# EAGLE library part PINHEAD-10PINS (library BaseApp)
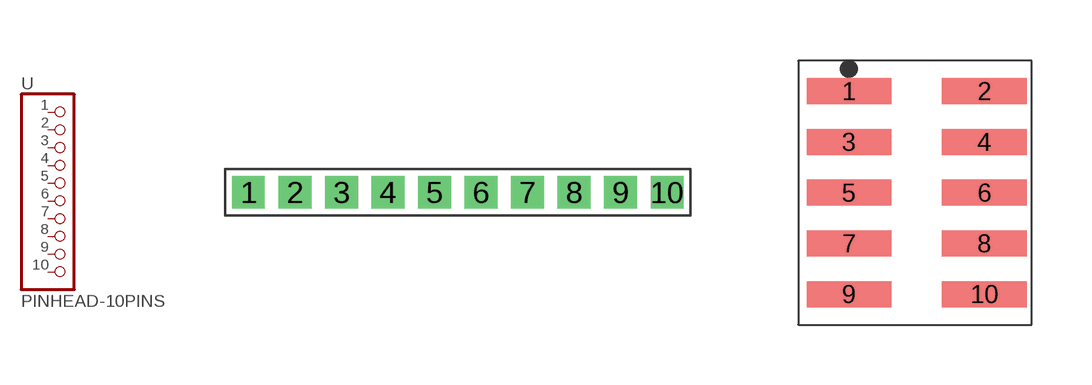
[diagram p73: symbol with the pads of PINHEAD-1X10-SQUARE; footprints PINHEAD-1X10-SQUARE, 1.27MM_HEADER-SMT]

Designator prefix -

## PINHEAD-10PINS  [PINHEAD-1X10-SQUARE]
1  1  pas
2  2  pas
3  3  pas
4  4  pas
5  5  pas
6  6  pas
7  7  pas
8  8  pas
9  9  pas
10  10  pas

## PINHEAD-10PINS-1.27MM_2X5  [1.27MM_HEADER-SMT]
Pads as for PINHEAD-1X10-SQUARE

## PINHEAD-10PINS-2MM  [PINHEAD-1X10_2MM]
Pads as for PINHEAD-1X10-SQUARE

## Footprint PINHEAD-1X10-SQUARE (pad centres in mm)
drill 1.016 pad 1.778 square: 1 -11.43,0; 2 -8.89,0; 3 -6.35,0; 4 -3.81,0; 5 -1.27,0; 6 1.27,0; 7 3.81,0; 8 6.35,0; 9 8.89,0; 10 11.43,0

## Footprint 1.27MM_HEADER-SMT (pad centres in mm)
smd 2.115 x 0.65: 1 0,2.54; 2 3.385,2.54; 3 0,1.27; 4 3.385,1.27; 5 0,0; 6 3.385,0; 7 0,-1.27; 8 3.385,-1.27; 9 0,-2.54; 10 3.385,-2.54

## Footprint PINHEAD-1X10_2MM (pad centres in mm)
drill 0.8: 1 0,0; 2 2,0; 3 4,0; 4 6,0; 5 8,0; 6 10,0; 7 12,0; 8 14,0; 9 16,0; 10 18,0